# EAGLE library part TY-EYSGJNAWY-1X (library BiomedicalImagingLibrary)
Digikey PN 587-4378-1-ND
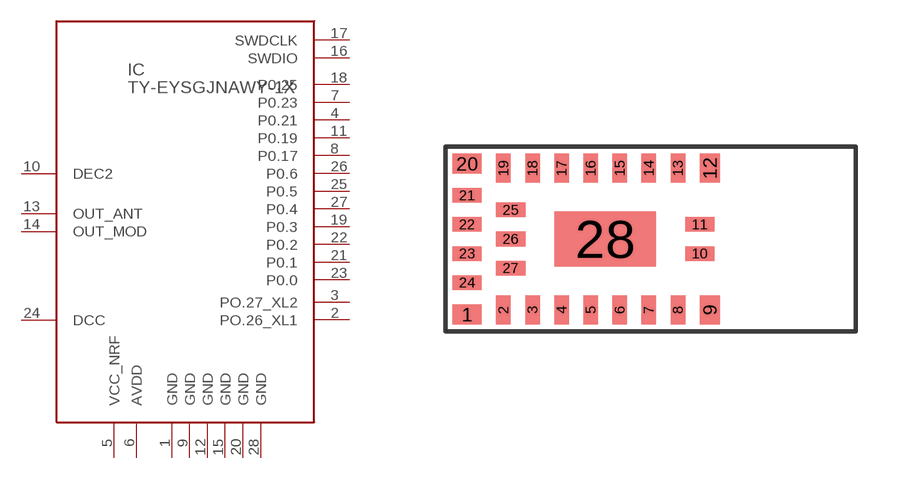
[diagram p11: symbol with the pads of TY-EYSGJN; footprint TY-EYSGJN]

Designator prefix IC

## TY-EYSGJNAWY-1X  [TY-EYSGJN]
1  GND
2  PO.26_XL1
3  PO.27_XL2
4  P0.21
5  VCC_NRF
6  AVDD
7  P0.23
8  P0.17
9  GND
10  DEC2
11  P0.19
12  GND
13  OUT_ANT
14  OUT_MOD
15  GND
16  SWDIO
17  SWDCLK
18  P0.25
19  P0.3
20  GND
21  P0.1
22  P0.2
23  P0.0
24  DCC
25  P0.5
26  P0.6
27  P0.4
28  GND

## Footprint TY-EYSGJN (pad centres in mm)
smd 0.8 x 0.55: 1 0.6,0.475; 20 0.6,4.625
smd 0.4 x 0.8: 2 1.6,0.6; 3 2.4,0.6; 4 3.2,0.6; 5 4,0.6; 6 4.8,0.6; 7 5.6,0.6; 8 6.4,0.6; 13 6.4,4.5; 14 5.6,4.5; 15 4.8,4.5; 16 4,4.5; 17 3.2,4.5; 18 2.4,4.5; 19 1.6,4.5
smd 0.55 x 0.8: 9 7.275,0.6; 12 7.275,4.5
smd 0.8 x 0.4: 10 7,2.15; 11 7,2.95; 21 0.6,3.75; 22 0.6,2.95; 23 0.6,2.15; 24 0.6,1.35; 25 1.8,3.35; 26 1.8,2.55; 27 1.8,1.75
smd 2.8 x 1.5: 28 4.4,2.55